# Altium integrated library LTW-C191TLA.IntLib: 1 symbol
Pins are listed as number, name and electrical type; pins without a type are passive.

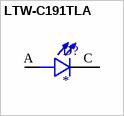
[diagram p0: symbol LTW-C191TLA]

## LTW-C191TLA
designator D?
CHIP LED WHITE 0603 TOP VIEW; MP: LTW-C191TLA; Package: None; Availability: Unavailable; Value: *; Price: None
footprint LEDC1608X65N
pins: A, C